# EAGLE library part ANT_AT3 (library 0SBLib)
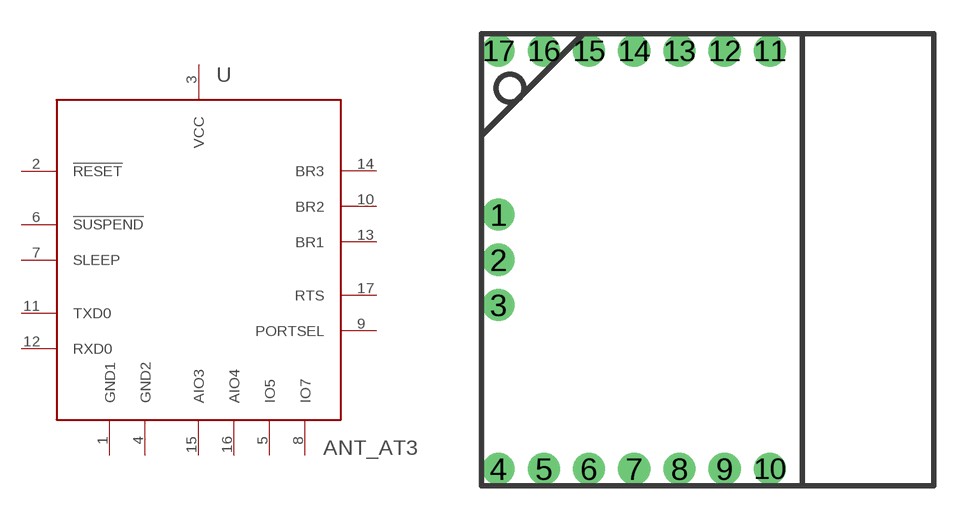
[diagram p30: symbol with the pads of ANT_MODULE; footprint ANT_MODULE]

Designator prefix -

## ANT_AT3  [ANT_MODULE]
1  GND1
2  !RESET
3  VCC
4  GND2
5  IO5
6  !SUSPEND
7  SLEEP
8  IO7
9  PORTSEL
10  BR2
11  TXD0
12  RXD0
13  BR1
14  BR3
15  AIO3
16  AIO4
17  RTS

## Footprint ANT_MODULE (pad centres in mm)
drill 0.8 pad 1.422: 1 -9.25,2; 2 -9.25,0; 3 -9.25,-2; 4 -9.25,-9.25; 5 -7.25,-9.25; 6 -5.25,-9.25; 7 -3.25,-9.25; 8 -1.25,-9.25; 9 0.75,-9.25; 10 2.75,-9.25; 11 2.75,9.25; 12 0.75,9.25; 13 -1.25,9.25; 14 -3.25,9.25; 15 -5.25,9.25; 16 -7.25,9.25; 17 -9.25,9.25